# EAGLE library part IGRID-20 (library thermo)
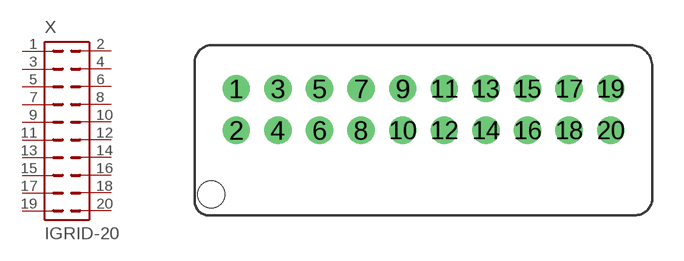
[diagram p7: symbol with the pads of I-GRID-20; footprint I-GRID-20]

Designator prefix X

## IGRID-20  [I-GRID-20]
1  1  pas
2  2  pas
3  3  pas
4  4  pas
5  5  pas
6  6  pas
7  7  pas
8  8  pas
9  9  pas
10  10  pas
11  11  pas
12  12  pas
13  13  pas
14  14  pas
15  15  pas
16  16  pas
17  17  pas
18  18  pas
19  19  pas
20  20  pas

## Footprint I-GRID-20 (pad centres in mm)
drill 0.8: 1 -9,2; 2 -9,0; 3 -7,2; 4 -7,0; 5 -5,2; 6 -5,0; 7 -3,2; 8 -3,0; 9 -1,2; 10 -1,0; 11 1,2; 12 1,0; 13 3,2; 14 3,0; 15 5,2; 16 5,0; 17 7,2; 18 7,0; 19 9,2; 20 9,0
hole 1.3 at -10.2,-3.1